# Altium schematic symbol library SCH - POWER - SWITCHMODE - TI TPS5420-Q1_D_8.SchLib: 1 symbol
Pins are listed as number, name and electrical type; pins without a type are passive.

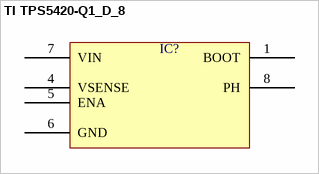
[diagram p0: symbol TI TPS5420-Q1_D_8]

## TI TPS5420-Q1_D_8
designator IC?  (value not drawn)
pins: 1 BOOT, 4 VSENSE, 5 ENA, 6 GND, 7 VIN, 8 PH